# Altium footprint library VSON-14_3x4x05P.PcbLib: 1 footprints
Each footprint in its own frame and in the unit in brackets; x right, y up, seen from the top. Pads: shape width x height; smd on the part's side, far side on the other; paste and mask are expansions set on the pad; w line width, h text height; cw(c..) or ccw(c..) is an arc to the next point about the centre after c.
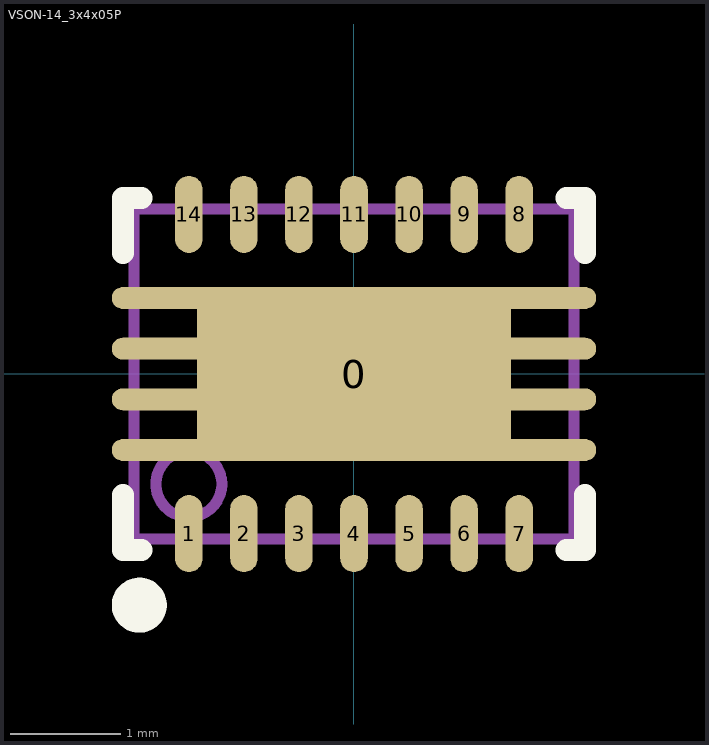
[diagram p0: the footprint, top view; thin cyan lines are the x and y axes]

## VSON-14_3x4x05P [mm]
pads (19):
  rect 2.85x1.58 smd mask+0.051: 0(0,0)
  oval 0.25x0.7 smd mask+0.051: 1(-1.5,-1.45) 2(-1,-1.45) 3(-0.5,-1.45) 4(0,-1.45) 5(0.5,-1.45) 6(1,-1.45) 7(1.5,-1.45) 8(1.5,1.45) 9(1,1.45) 10(0.5,1.45) 11(0,1.45) 12(-0.5,1.45) 13(-1,1.45) 14(-1.5,1.45)
  oval 4.4x0.2 smd mask+0.051: ""(0,-0.69) ""(0,-0.23) ""(0,0.23) ""(0,0.69)
Top Overlay:
  circle w0.25: c-1.95,-2.1 r0.125
  lines w0.2: -2.1,-1.1 -2.1,-1.6 -1.93,-1.6 ; -2.1,1.1 -2.1,1.6 -1.93,1.6 ; 1.93,-1.6 2.1,-1.6 2.1,-1.1 ; 1.93,1.6 2.1,1.6 2.1,1.1
Mechanical 13:
  circle w0.1: c-1.5,-1 r0.3
  lines w0.1: -2,-1.5 2,-1.5 2,1.5 -2,1.5 -2,-1.5